# Altium footprint library SMCK.PcbLib: 1 footprints
Each footprint in its own frame and in the unit in brackets; x right, y up, seen from the top. Pads: shape width x height; smd on the part's side, far side on the other; paste and mask are expansions set on the pad; w line width, h text height; cw(c..) or ccw(c..) is an arc to the next point about the centre after c.
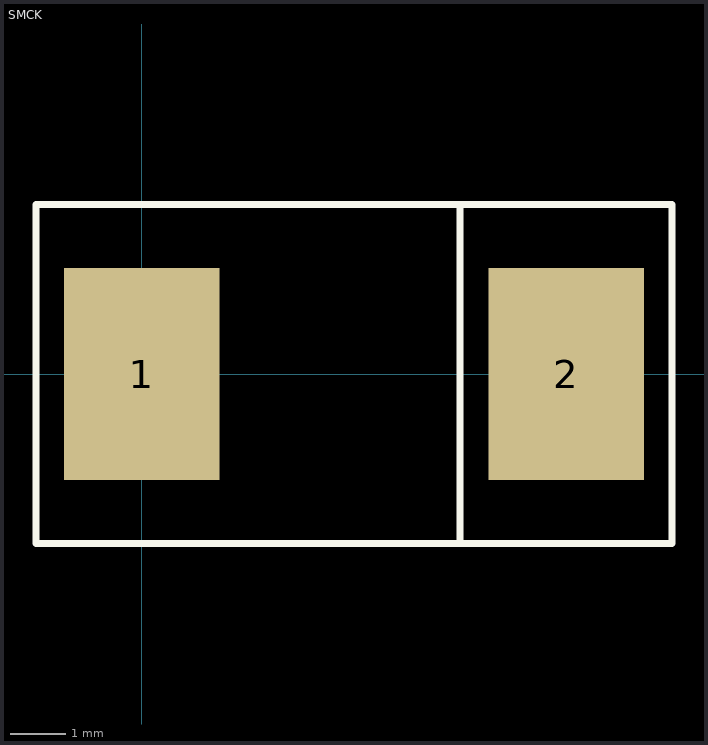
[diagram p0: the footprint, top view; thin cyan lines are the x and y axes]

## SMCK [mil]
pads (2):
  rect 110x150 smd: 1(0,0) 2(300,0)
Top Overlay:
  lines w5: 225,-120 225,120 ; -75,-120 375,-120 375,120 -75,120 -75,-120
3D body: height 90.75, standoff 0, extent -5,-116.14 307.99,116.14